# Altium footprint library L20.PcbLib: 5 footprints
Each footprint in its own frame and in the unit in brackets; x right, y up, seen from the top. Pads: shape width x height; smd on the part's side, far side on the other; paste and mask are expansions set on the pad; w line width, h text height; cw(c..) or ccw(c..) is an arc to the next point about the centre after c.
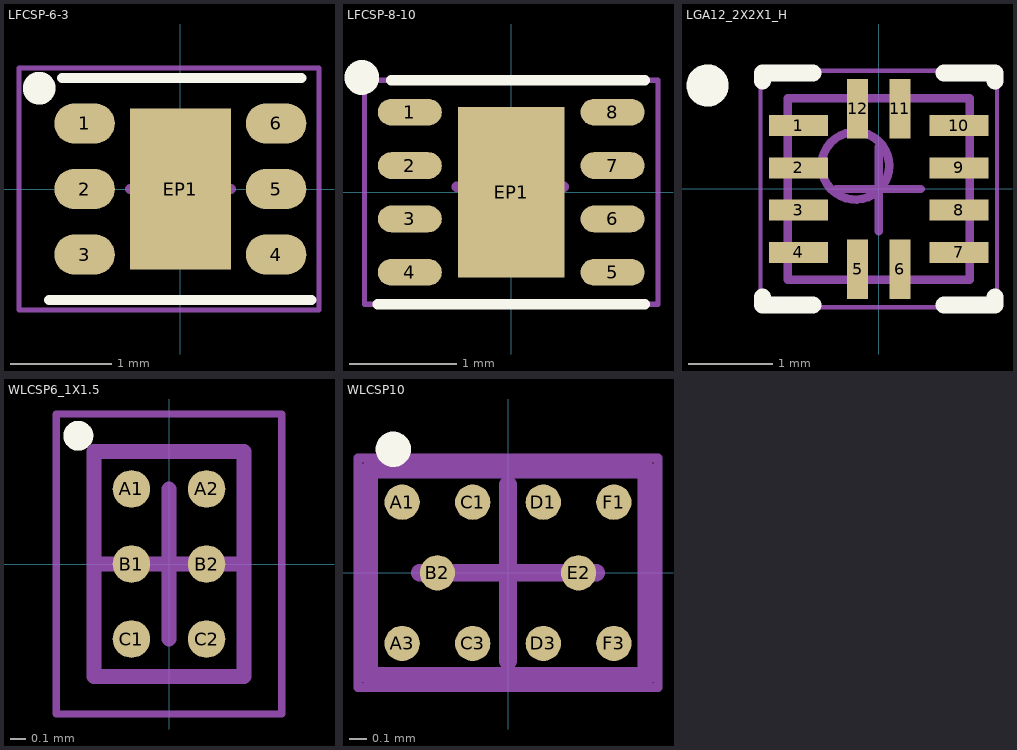
[diagram p0: the footprints below, top view; thin cyan lines are the x and y axes]

## LFCSP-6-3 [mm] "LGA, 12-Leads, Body 2,00x2,00mm, Pitch 0,50mm, IPC High Density"
height 1
pads (7):
  rrect100% 0.6x0.4 smd: 1(-0.95,0.65) 2(-0.95,0) 3(-0.95,-0.65) 4(0.95,-0.65) 5(0.95,0) 6(0.95,0.65)
  rect 1x1.6 smd: EP1(0,0)
Top Overlay:
  circle w0.254: c-1.4,1 r0.035
  lines w0.1: -1.3,-1.1 1.3,-1.1 ; -1.175,1.1 1.2,1.1
Mechanical 15:
  lines w0.05: -1.6,-1.2 1.375,-1.2 1.375,1.2 -1.6,1.2 -1.6,-1.2
  lines w0.1: -0.5,0 0.5,0 ; 0,-0.5 0,0.5
Mechanical 17:
  text "'.Designator'" at -2.275,-0.375 h0.4
Mechanical 19:
  text "'.Comment'" at -1.775,-0.4 h0.4
3D body "User Library-LFCSP_UD6.step": height 0.65, standoff 0, extent -1.05,-1 1.05,1

## LFCSP-8-10 [mm] "LGA, 12-Leads, Body 2,00x2,00mm, Pitch 0,50mm, IPC High Density"
height 1
pads (9):
  rrect100% 0.6x0.25 smd: 1(-0.95,0.75) 2(-0.95,0.25) 3(-0.95,-0.25) 4(-0.95,-0.75) 5(0.95,-0.75) 6(0.95,-0.25) 7(0.95,0.25) 8(0.95,0.75)
  rect 1x1.6 smd: EP1(0,0)
Top Overlay:
  circle w0.254: c-1.4,1.075 r0.035
  lines w0.1: -1.25,-1.05 1.25,-1.05 ; -1.125,1.05 1.25,1.05
Mechanical 15:
  lines w0.05: -1.375,-1.05 -1.375,1.05 1.375,1.05 1.375,-1.05 -1.375,-1.05
  lines w0.1: -0.509,0.05 0.491,0.05 ; -0.009,-0.45 -0.009,0.55
Mechanical 17:
  text "'.Designator'" at -2.275,-0.125 h0.4
Mechanical 19:
  text "'.Comment'" at -1.775,-0.15 h0.4
3D body "User Library-lfcsp-8-2.step": height 0.55, standoff -0.02, extent -1.025,-1 1.015,1

## LGA12_2X2X1_H [mm] "LGA, 12-Leads, Body 2,00x2,00mm, Pitch 0,50mm, IPC High Density"
height 1
pads (12):
  rect 0.7x0.25 smd: 1(-0.95,0.75) 2(-0.95,0.25) 3(-0.95,-0.25) 4(-0.95,-0.75) 7(0.95,-0.75) 8(0.95,-0.25) 9(0.95,0.25) 10(0.95,0.75)
  rect 0.25x0.7 smd: 5(-0.25,-0.95) 6(0.25,-0.95) 11(0.25,0.95) 12(-0.25,0.95)
Top Overlay:
  circle w0.25: c-2.025,1.225 r0.125
  lines w0.2: -1.375,-1.275 -1.375,-1.375 -0.775,-1.375 ; -1.375,1.275 -1.375,1.375 -0.775,1.375 ; 0.775,-1.375 1.375,-1.375 1.375,-1.275 ; 0.775,1.375 1.375,1.375 1.375,1.275
Mechanical 13:
  circle w0.1: c-0.275,0.275 r0.4
  lines w0.1: -1.075,-1.075 1.075,-1.075 1.075,1.075 -1.075,1.075 -1.075,-1.075
Mechanical 15:
  lines w0.05: -1.4,-1.4 1.4,-1.4 1.4,1.4 -1.4,1.4 -1.4,-1.4
  lines w0.1: -0.5,0 0.5,0 ; 0,-0.5 0,0.5
Mechanical 17:
  text "'.Designator'" at -1.27,-0.762 h0.51
Mechanical 19:
  text "'.Comment'" at -1.27,-0.762 h0.51
3D body "User Library-lga-2x2x0_9.step": height 0.95, standoff 0, extent -1,-1 1,1

## WLCSP6_1X1.5 [mm]
height 0.63
pads (6):
  round 0.25 smd: A1(-0.25,0.5) A2(0.25,0.5) B1(-0.25,0) B2(0.25,0) C1(-0.25,-0.5) C2(0.25,-0.5)
Top Overlay:
  circle w0.1: c-0.605,0.855 r0.05
Mechanical 13:
  lines w0.1: -0.5,-0.75 0.5,-0.75 0.5,0.75 -0.5,0.75 -0.5,-0.75
Mechanical 15:
  lines w0.05: -0.75,-1 0.75,-1 0.75,1 -0.75,1 -0.75,-1
  lines w0.1: -0.5,0 0.5,0 ; 0,-0.5 0,0.5
Mechanical 17:
  text "'.Designator'" at -0.127,-1.143 h0.2
Mechanical 19:
  text "'.Comment'" at 0.381,-0.762 h0.2
3D body "BGA100P9X9-81A.step": height 0.63, standoff 0, extent -0.5,-0.75 0.5,0.75

## WLCSP10 [mm]
height 0.63
pads (10):
  round 0.2 smd mask+0.03: A1(-0.6,0.4) A3(-0.6,-0.4) B2(-0.4,0) C1(-0.2,0.4) C3(-0.2,-0.4) D1(0.2,0.4) D3(0.2,-0.4) E2(0.4,0) F1(0.6,0.4) F3(0.6,-0.4)
Top Overlay:
  circle w0.1: c-0.65,0.7 r0.05
Mechanical 2:
  lines w0.1: -0.785,-0.585 0.785,-0.585 0.785,0.585 -0.785,0.585 -0.785,-0.585
Mechanical 4:
  lines w0.05: -0.85,-0.65 0.85,-0.65 0.85,0.65 -0.85,0.65 -0.85,-0.65
  lines w0.1: -0.5,0 0.5,0 ; 0,-0.5 0,0.5
3D body "User Library-PCMF2USB3S.step": height 0.57, standoff -0.03, extent -0.785,-0.585 0.785,0.585